# Altium footprint library NRF_PCB.PcbLib: 17 footprints (part 1 of 2)
Each footprint in its own frame and in the unit in brackets; x right, y up, seen from the top. Pads: shape width x height; smd on the part's side, far side on the other; paste and mask are expansions set on the pad; w line width, h text height; cw(c..) or ccw(c..) is an arc to the next point about the centre after c.
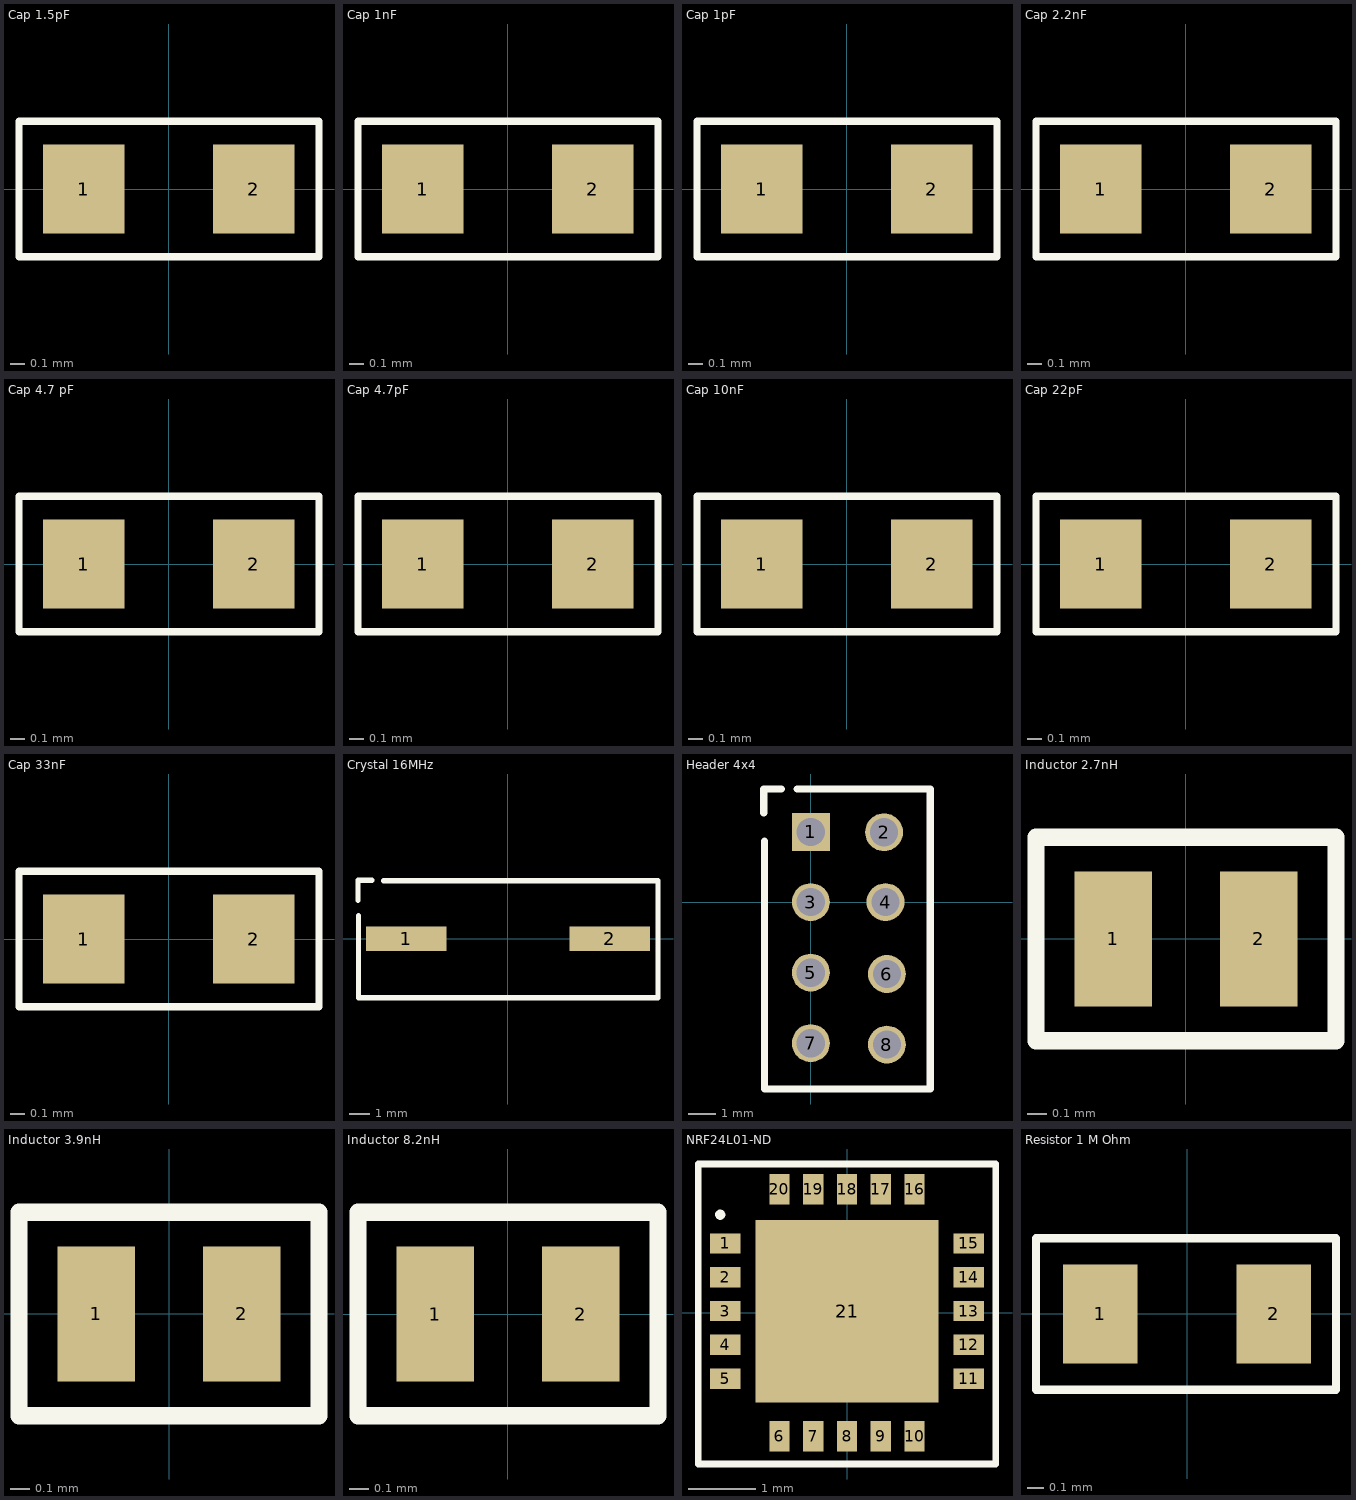
[diagram p0: the footprints below, top view; thin cyan lines are the x and y axes]

## Cap 1.5pF [mm]
pads (2):
  rect 0.55x0.6 smd: 1(-0.575,0) 2(0.575,0)
Top Overlay:
  lines w0.05: -1.013,-0.457 1.016,-0.457 1.016,0.457 -1.013,0.457 -1.013,-0.457
3D body "cap_0402.step": height 0.56, standoff 0, extent -0.521,-0.279 0.521,0.279

## Cap 1nF [mm]
pads (2):
  rect 0.55x0.6 smd: 1(-0.575,0) 2(0.575,0)
Top Overlay:
  lines w0.05: -1.013,-0.457 -1.013,0.457 1.016,0.457 1.016,-0.457 -1.013,-0.457
3D body "cap_0402.step": height 0.56, standoff 0, extent -0.521,-0.279 0.521,0.279

## Cap 1pF [mm]
pads (2):
  rect 0.55x0.6 smd: 1(-0.575,0) 2(0.575,0)
Top Overlay:
  lines w0.05: -1.013,-0.457 -1.013,0.457 1.016,0.457 1.016,-0.457 -1.013,-0.457
3D body "cap_0402.step": height 0.56, standoff 0, extent -0.521,-0.279 0.521,0.279

## Cap 2.2nF [mm]
pads (2):
  rect 0.55x0.6 smd: 1(-0.575,0) 2(0.575,0)
Top Overlay:
  lines w0.05: -1.013,-0.457 1.016,-0.457 1.016,0.457 -1.013,0.457 -1.013,-0.457
3D body "cap_0402.step": height 0.56, standoff 0, extent -0.521,-0.279 0.521,0.279

## Cap 4.7 pF [mm]
pads (2):
  rect 0.55x0.6 smd: 1(-0.575,0) 2(0.575,0)
Top Overlay:
  lines w0.05: -1.013,-0.457 -1.013,0.457 1.016,0.457 1.016,-0.457 -1.013,-0.457
3D body "cap_0402.step": height 0.56, standoff 0, extent -0.521,-0.279 0.521,0.279

## Cap 4.7pF [mm]
pads (2):
  rect 0.55x0.6 smd: 1(-0.575,0) 2(0.575,0)
Top Overlay:
  lines w0.05: -1.013,-0.457 -1.013,0.457 1.016,0.457 1.016,-0.457 -1.013,-0.457
3D body "cap_0402.step": height 0.56, standoff 0, extent -0.521,-0.279 0.521,0.279

## Cap 10nF [mm]
pads (2):
  rect 0.55x0.6 smd: 1(-0.575,0) 2(0.575,0)
Top Overlay:
  lines w0.05: -1.013,-0.457 1.016,-0.457 1.016,0.457 -1.013,0.457 -1.013,-0.457
3D body "cap_0402.step": height 0.56, standoff 0, extent -0.521,-0.279 0.521,0.279

## Cap 22pF [mm]
pads (2):
  rect 0.55x0.6 smd: 1(-0.575,0) 2(0.575,0)
Top Overlay:
  lines w0.05: -1.013,-0.457 1.016,-0.457 1.016,0.457 -1.013,0.457 -1.013,-0.457
3D body "cap_0402.step": height 0.56, standoff 0, extent -0.521,-0.279 0.521,0.279

## Cap 33nF [mm]
pads (2):
  rect 0.55x0.6 smd: 1(-0.575,0) 2(0.575,0)
Top Overlay:
  lines w0.05: -1.013,-0.457 1.016,-0.457 1.016,0.457 -1.013,0.457 -1.013,-0.457
3D body "cap_0402.step": height 0.56, standoff 0, extent -0.521,-0.279 0.521,0.279

## Crystal 16MHz [mm] "4 MHz ±30ppm Crystal 12pF 80 Ohms HC-49/US"
pads (2):
  rect 4x1.2 smd: 1(-5.05,0) 2(5.05,0)
Top Overlay:
  lines w0.254: -7.437,1.9 -7.437,2.9 -6.737,2.9 ; -7.417,1.15 -7.417,-2.925 7.442,-2.925 7.442,2.875 -6.172,2.875
3D body "XTAL_J49SMH_JAU.step": height 4.04, standoff 0, extent -6.35,-2.4 6.452,2.4

## Header 4x4 [mm]
pads (8):
  rect 1.37x1.37 hole 1.02: 1(0,2.54)
  round 1.37 hole 1.02: 2(2.65,2.525) 3(0,0) 4(2.7,0) 5(0,-2.55) 6(2.75,-2.6) 7(0,-5.1) 8(2.75,-5.15)
Top Overlay:
  lines w0.254: -1.702,3.226 -1.702,4.089 -1.067,4.089 ; -1.676,2.21 -1.676,-6.756 4.318,-6.756 4.318,4.089 -0.508,4.089
3D body "Header, Male, 2.54mm, 1x4.STEP": height 8.63, standoff -2.91, extent -1.35,-6.455 1.19,3.705
3D body "Header, Male, 2.54mm, 1x4.STEP": height 8.63, standoff -2.91, extent 1.38,-6.365 3.92,3.795

## Inductor 2.7nH [mm]
pads (2):
  rect 0.4x0.7 smd: 1(-0.375,0) 2(0.375,0)
Top Overlay:
  lines w0.09: -0.775,-0.525 0.775,-0.525 0.775,0.525 -0.775,0.525 -0.775,-0.525
3D body "Inductor8_2nH.STEP": height 0.51, standoff -0.01, extent -0.5,-0.275 0.5,0.275

## Inductor 3.9nH [mm]
pads (2):
  rect 0.4x0.7 smd: 1(-0.375,0) 2(0.375,0)
Top Overlay:
  lines w0.09: -0.775,-0.525 0.775,-0.525 0.775,0.525 -0.775,0.525 -0.775,-0.525
3D body "Inductor8_2nH.STEP": height 0.51, standoff -0.01, extent -0.5,-0.275 0.5,0.275

## Inductor 8.2nH [mm] "FIXED IND 8.2NH 680MA 100MOHM SM"
pads (2):
  rect 0.4x0.7 smd: 1(-0.375,0) 2(0.375,0)
Top Overlay:
  lines w0.09: -0.775,-0.525 0.775,-0.525 0.775,0.525 -0.775,0.525 -0.775,-0.525
3D body "Inductor8_2nH.STEP": height 0.51, standoff -0.01, extent -0.5,-0.275 0.5,0.275

## NRF24L01-ND [mm] "IC RF TxRx Only General ISM > 1GHz 2.4GHz 20-VFQFN Exposed Pad"
pads (21):
  rect 0.45x0.3 smd mask-2539.97: 1(-1.8,1.025) 2(-1.8,0.525) 3(-1.8,0.025) 4(-1.8,-0.475) 5(-1.8,-0.975) 11(1.8,-0.975) 12(1.8,-0.475) 13(1.8,0.025) 14(1.8,0.525) 15(1.8,1.025)
  rect 0.3x0.45 smd mask-2539.97: 6(-1,-1.825) 7(-0.5,-1.825) 8(0,-1.825) 9(0.5,-1.825) 10(1,-1.825) 16(1,1.825) 17(0.5,1.825) 18(0,1.825) 19(-0.5,1.825) 20(-1,1.825)
  rect 2.7x2.7 smd mask-2539.97: 21(0,0.025)
Top Overlay:
  circle w0.1: c-1.875,1.45 r0.025
  lines w0.1: -2.2,-2.238 2.2,-2.238 2.2,2.2 -2.2,2.2 -2.2,-2.238
Top Solder:
  region: -0.8,1.55 -1.2,1.55 -1.2,2.1 -0.8,2.1
  region: -0.3,1.55 -0.7,1.55 -0.7,2.1 -0.3,2.1
  region: 0.2,1.55 -0.2,1.55 -0.2,2.1 0.2,2.1
  region: 0.7,1.55 0.3,1.55 0.3,2.1 0.7,2.1
  region: 1.2,1.55 0.8,1.55 0.8,2.1 1.2,2.1
  region: -1.4,-1.375 -1.4,1.425 1.4,1.425 1.4,-1.375
  region: -2.075,0.825 -2.075,1.225 -1.525,1.225 -1.525,0.825
  region: -2.075,0.325 -2.075,0.725 -1.525,0.725 -1.525,0.325
  region: -2.075,-0.175 -2.075,0.225 -1.525,0.225 -1.525,-0.175
  region: -2.075,-0.675 -2.075,-0.275 -1.525,-0.275 -1.525,-0.675
  region: -2.075,-1.175 -2.075,-0.775 -1.525,-0.775 -1.525,-1.175
  region: 1.525,0.825 1.525,1.225 2.075,1.225 2.075,0.825
  region: 1.525,0.325 1.525,0.725 2.075,0.725 2.075,0.325
  region: 1.525,-0.175 1.525,0.225 2.075,0.225 2.075,-0.175
  region: 1.525,-0.675 1.525,-0.275 2.075,-0.275 2.075,-0.675
  region: 1.525,-1.175 1.525,-0.775 2.075,-0.775 2.075,-1.175
  region: -0.8,-2.1 -1.2,-2.1 -1.2,-1.55 -0.8,-1.55
  region: -0.3,-2.1 -0.7,-2.1 -0.7,-1.55 -0.3,-1.55
  region: 0.2,-2.1 -0.2,-2.1 -0.2,-1.55 0.2,-1.55
  region: 0.7,-2.1 0.3,-2.1 0.3,-1.55 0.7,-1.55
  region: 1.2,-2.1 0.8,-2.1 0.8,-1.55 1.2,-1.55
3D body "NRF24L01P-R7.STEP": height 0.96, standoff 0.01, extent -2,-1.975 2,2.025

## Resistor 1 M Ohm [mm]
pads (2):
  rect 0.45x0.6 smd: 1(-0.525,0) 2(0.525,0)
Top Overlay:
  lines w0.05: -0.913,-0.457 0.9,-0.457 0.9,0.457 -0.913,0.457 -0.913,-0.457
3D body "RES_0402.step": height 0.36, standoff 0, extent -0.546,-0.279 0.546,0.279